# EAGLE library part BQ28Z610 (library ICs)
Impedance Track™ Gas Gauge and Protection Solution for 1-Series to 2-Series Cell Li-Ion Battery Packs
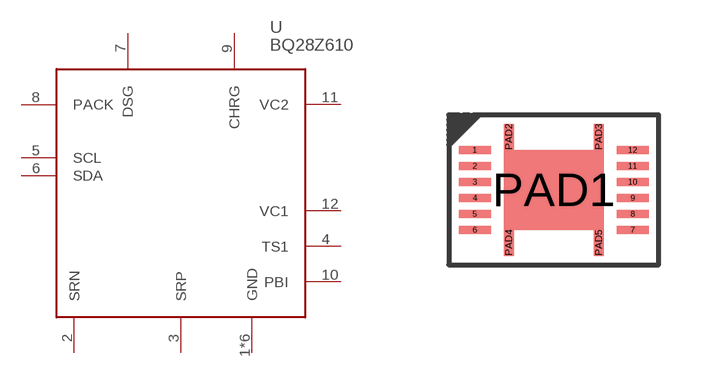
[diagram p134: symbol with the pads of VSON12; footprint VSON12]

Designator prefix U

## BQ28Z610 (DIGIKEY: 296-43394-1-ND; PRICE_PER: 3.5; VALUE: BQ28Z610)  [VSON12]
1  GND
2  SRN
3  SRP
4  TS1
5  SCL
6  SDA
7  DSG
8  PACK
9  CHRG
10  PBI
11  VC2
12  VC1
PAD1  GND
PAD2  GND
PAD3  GND
PAD4  GND
PAD5  GND

## Footprint VSON12 (pad centres in mm)
smd 0.8 x 0.2: 1 -1.975,1; 2 -1.975,0.6; 3 -1.975,0.2; 4 -1.975,-0.2; 5 -1.975,-0.6; 6 -1.975,-1; 7 1.975,-1; 8 1.975,-0.6; 9 1.975,-0.2; 10 1.975,0.2; 11 1.975,0.6; 12 1.975,1
smd 2.5 x 2: PAD1 0,0
smd 0.25 x 0.65: PAD2 -1.125,1.325; PAD3 1.125,1.325; PAD4 -1.125,-1.325; PAD5 1.125,-1.325